# Altium footprint library ANT_868MHZ_0868AT43A0020.PcbLib: 1 footprints
Each footprint in its own frame and in the unit in brackets; x right, y up, seen from the top. Pads: shape width x height; smd on the part's side, far side on the other; paste and mask are expansions set on the pad; w line width, h text height; cw(c..) or ccw(c..) is an arc to the next point about the centre after c.
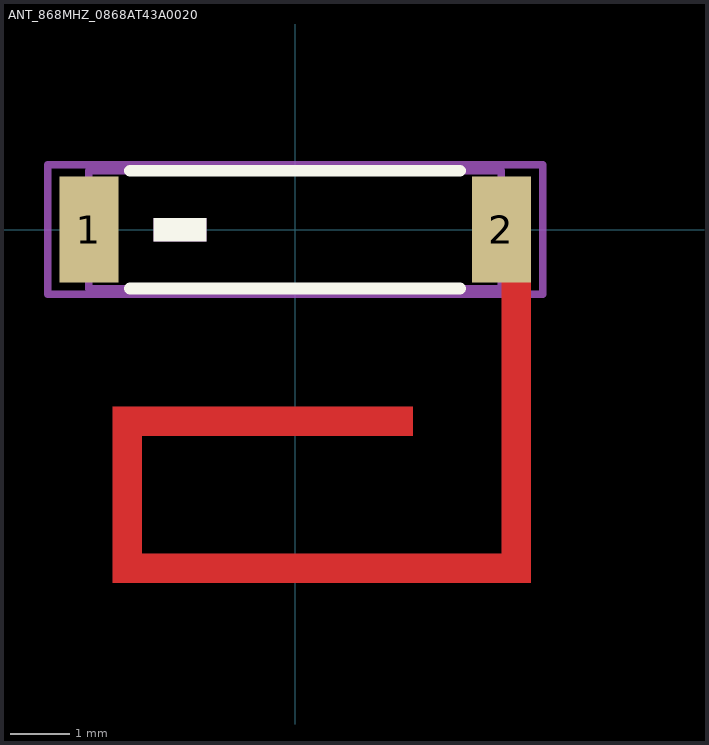
[diagram p0: the footprint, top view; thin cyan lines are the x and y axes]

## ANT_868MHZ_0868AT43A0020 [mm]
pads (2):
  rect 1x1.8 smd: 1(-3.5,0) 2(3.5,0)
Top Layer:
  region: 2,-3 -3.1,-3 -3.1,-3.5 2,-3.5
  region: -2.6,-6 -2.6,-3 -3.1,-3 -3.1,-6
  region: 4,-5.5 -3.1,-5.5 -3.1,-6 4,-6
  region: 3.5,-0.7 3.5,-6 4,-6 4,-0.7
Top Overlay:
  rectangle: -2.4,-0.2 -1.5,0.2
  lines w0.2: -2.8,-1 2.8,-1 ; -2.8,1 2.8,1
Mechanical 13:
  lines w0.127: -3.5,-1 -3.5,1 3.5,1 3.5,-1 -3.5,-1
Mechanical 15:
  rectangle: -2.4,-0.2 -1.5,0.2
  lines w0.127: -4.2,-1.1 4.2,-1.1 4.2,1.1 -4.2,1.1 -4.2,-1.1
  text ".Designator" at -0.5,-0.5 h1.02
3D body "User Library-0868AT43A0020.step": height 0.8, standoff 0, extent -3.5,-1 3.5,1